# EAGLE library part ACHS7121 (library vikc-ic)
Current Measurement IC
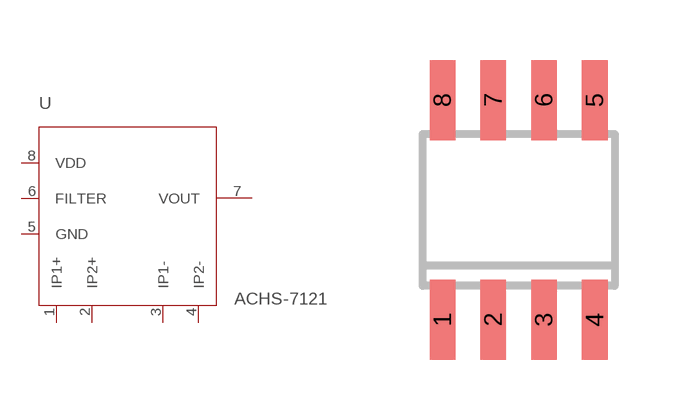
[diagram p12: symbol with the pads of SO8; footprint SO8]

Designator prefix U

## ACHS7121  [SO8]
1  IP1+
2  IP2+
3  IP1-
4  IP2-
5  GND  pwr
6  FILTER  in
7  VOUT  out
8  VDD

## Footprint SO8 (pad centres in mm)
SMALL OUTLINE INTEGRATED CIRCUIT
smd 0.64 x 2: 1 -1.905,-2.745; 2 -0.635,-2.745; 3 0.635,-2.745; 4 1.905,-2.745; 5 1.905,2.745; 6 0.635,2.745; 7 -0.635,2.745; 8 -1.905,2.745